# Altium integrated library TSW-106-07-H-S.IntLib: 1 symbol
Pins are listed as number, name and electrical type; pins without a type are passive.

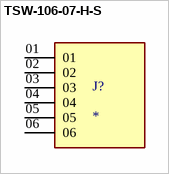
[diagram p0: symbol TSW-106-07-H-S]

## TSW-106-07-H-S
designator J?
Connector Header Through Hole 6 position 0.100 (2.54mm); MP: TSW-106-07-H-S; MF: Samtec; Value: *; Package: None; Purchase-URL: https://pricing.snapeda.com/search/part/TSW-106-07-H-S/?ref=eda; Availability: In Stock; Check_prices: https://www.snapeda.com/parts/TSW-106-07-H-S/Samtec/view-part/?ref=eda; SnapEDA_Link: https://www.snapeda.com/parts/TSW-106-07-H-S/Samtec/view-part/?ref=snap; Price: None
footprint SAMTEC_TSW-106-07-H-S
pins: 01, 02, 03, 04, 05, 06